# Altium schematic symbol library GSM.SchLib: 6 symbols
Pins are listed as number, name and electrical type; pins without a type are passive.

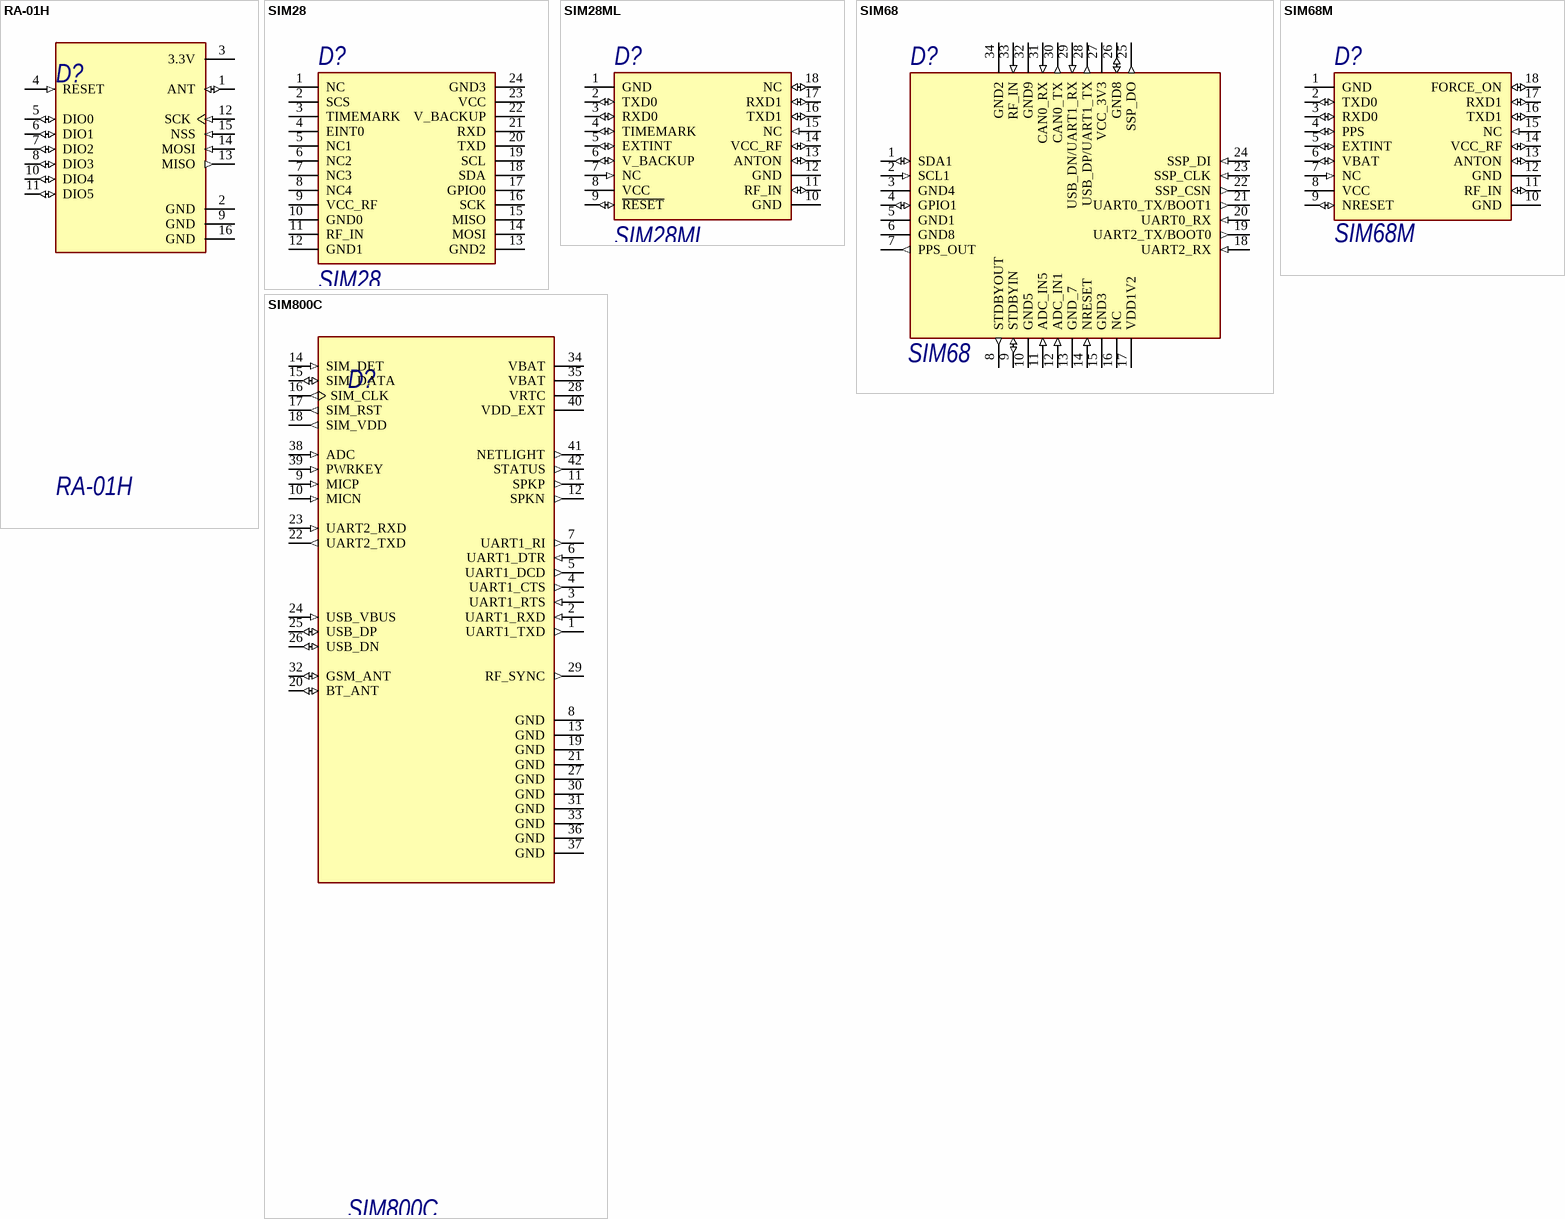
[diagram p0: symbols RA-01H to SIM800C]

## RA-01H
designator D?
Ai-Thinker Lora Series Module; SnapEDA_Link: https://www.snapeda.com/parts/RA-01H/AI-Thinker/view-part/?ref=snap; MF: AI-Thinker; Check_prices: https://www.snapeda.com/parts/RA-01H/AI-Thinker/view-part/?ref=eda; Value: *; Availability: Not in stock; MP: RA-01H; Price: None; Package: Package
footprint XCVR_RA-01H
pins: 1 ANT (io), 2 GND (power), 3 3.3V (power), 4 RESET (in), 5 DIO0 (io), 6 DIO1 (io), 7 DIO2 (io), 8 DIO3 (io), 9 GND (power), 10 DIO4 (io), 11 DIO5 (io), 12 SCK (in), 13 MISO (out), 14 MOSI (in), 15 NSS (in), 16 GND (power)
1 alternate drawing of the same symbol

## SIM28
designator D?
Module: GPS; MF: Simcom; Value: *; Price: None; Package: None
footprint SIM28
pins: 1 NC, 2 SCS, 3 TIMEMARK, 4 EINT0, 5 NC1, 6 NC2, 7 NC3, 8 NC4, 9 VCC_RF, 10 GND0, 11 RF_IN, 12 GND1, 13 GND2, 14 MOSI, 15 MISO, 16 SCK, 17 GPIO0, 18 SDA, 19 SCL, 20 TXD, 21 RXD, 22 V_BACKUP, 23 VCC, 24 GND3

## SIM28ML
designator D?
Module: GPS; MF: Simcom; Value: *; Price: None; Package: None; Availability: Unavailable; SnapEDA_Link: https://www.snapeda.com/parts/SIM28ML/SIMcom%20Wireless%20solutions%20Co.%2CLtd/view-part/550547/?ref=snap; MP: SIM28ML
footprint XCVR_SIM28ML
pins: 1 GND (power), 2 TXD0 (io), 3 RXD0 (io), 4 TIMEMARK (io), 5 EXTINT (io), 6 V_BACKUP (io), 7 NC (in), 8 VCC (power), 9 ~{RESET} (io), 10 GND (power), 11 RF_IN (io), 12 GND (power), 13 ANTON (io), 14 VCC_RF (io), 15 NC (in), 16 TXD1 (io), 17 RXD1 (io), 18 NC (io)

## SIM68
designator D?
GPS Receiver; Value: *
footprint SIM68 (SIM68 SIMCOM)
pins: 1 SDA1 (io), 2 SCL1 (in), 3 GND4 (power), 4 GPIO1 (io), 5 GND1 (power), 6 GND8 (power), 7 PPS_OUT (out), 8 STDBYOUT (out), 9 STDBYIN (io), 10 GND5 (power), 11 ADC_IN5 (in), 12 ADC_IN1 (in), 13 GND_7 (power), 14 NRESET (in), 15 GND3 (power), 16 NC, 17 VDD1V2 (power), 18 UART2_RX (in), 19 UART2_TX/BOOT0 (out), 20 UART0_RX (in), 21 UART0_TX/BOOT1 (out), 22 SSP_CSN (out), 23 SSP_CLK (in), 24 SSP_DI (in), 25 SSP_DO (out), 26 GND8 (io), 27 VCC_3V3 (power), 28 USB_DP/UART1_TX (out), 29 USB_DN/UART1_RX (in), 30 CAN0_TX (out), 31 CAN0_RX (in), 32 GND9 (power), 33 RF_IN (in), 34 GND2

## SIM68M
designator D?
GPS Receiver 1616MHz 3.3V 18-Pin LCC; MF: Simcom; MP: SIM68M; Package: LCC-18 Simcom; SnapEDA_Link: https://www.snapeda.com/parts/SIM68M/SIMcom%20Wireless%20solutions%20Co.,Ltd/view-part/563753/?ref=snap; Price: None; Availability: Unavailable; Value: *
footprint SIM68M
pins: 1 GND (power), 2 TXD0 (io), 3 RXD0 (io), 4 PPS (io), 5 EXTINT (io), 6 VBAT (io), 7 NC (in), 8 VCC (power), 9 NRESET (io), 10 GND (power), 11 RF_IN (io), 12 GND (power), 13 ANTON (io), 14 VCC_RF (io), 15 NC (in), 16 TXD1 (io), 17 RXD1 (io), 18 FORCE_ON (io)

## SIM800C
designator D?
Module: GSM/Bluetooth; GPRS; 2G; 1800MHz, 900MHz; 85.6kbps; SMD; MF: Simcom; MP: SIM800C; Availability: Unavailable; Package: None; Value: *; Price: None; SnapEDA_Link: https://www.snapeda.com/parts/SIM800C/SIMcom%20Wireless%20solutions%20Co.%2CLtd/view-part/571323/?ref=snap; Parameter 1: *
footprint LCC110P1570X1760X250-42N
pins: 1 UART1_TXD (out), 2 UART1_RXD (in), 3 UART1_RTS (in), 4 UART1_CTS (out), 5 UART1_DCD (out), 6 UART1_DTR (in), 7 UART1_RI (out), 8 GND (power), 9 MICP (in), 10 MICN (in), 11 SPKP (out), 12 SPKN (out), 13 GND (power), 14 SIM_DET (in), 15 SIM_DATA (io), 16 SIM_CLK (out), 17 SIM_RST (out), 18 SIM_VDD (out), 19 GND (power), 20 BT_ANT (io), 21 GND (power), 22 UART2_TXD (out), 23 UART2_RXD (in), 24 USB_VBUS (in), 25 USB_DP (io), 26 USB_DN (io), 27 GND (power), 28 VRTC (power), 29 RF_SYNC (out), 30 GND (power), 31 GND (power), 32 GSM_ANT (io), 33 GND (power), 34 VBAT (power), 35 VBAT (power), 36 GND (power), 37 GND (power), 38 ADC (in), 39 PWRKEY (in), 40 VDD_EXT (power), 41 NETLIGHT (out), 42 STATUS (out)
1 alternate drawing of the same symbol